# Altium footprint library Ultrasonic Library.PcbLib: 1 footprints
Each footprint in its own frame and in the unit in brackets; x right, y up, seen from the top. Pads: shape width x height; smd on the part's side, far side on the other; paste and mask are expansions set on the pad; w line width, h text height; cw(c..) or ccw(c..) is an arc to the next point about the centre after c.
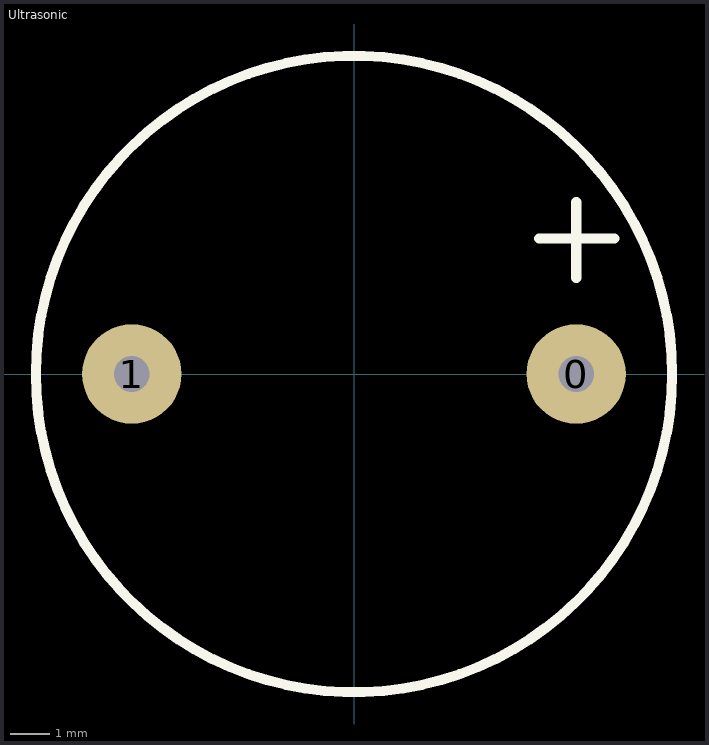
[diagram p0: the footprint, top view; thin cyan lines are the x and y axes]

## Ultrasonic [mm] "Ultrasonic Rx and Tx"
pads (2):
  round 2.5 hole 0.9: 0(5.588,0) 1(-5.588,0)
Top Overlay:
  circle w0.254: c0,0 r8.001
  lines w0.254: 4.648,3.404 6.553,3.404 ; 5.588,2.413 5.588,4.318